# EAGLE library part 25C320P (library ads)
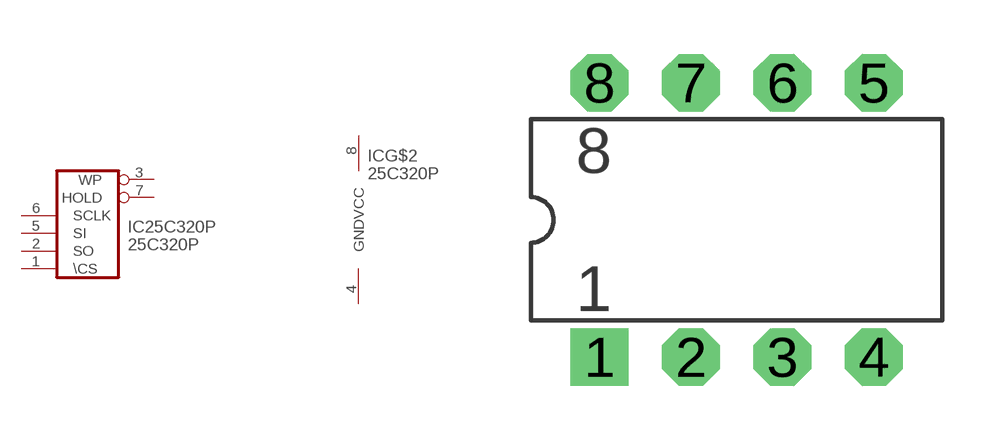
[diagram p3: symbol with the pads of DIP08; footprint DIP08]

Designator prefix IC; gates 25C320P=25C320P G$2=POWER2

## 25C320P  [DIP08]
1  25C320P:\CS  in
2  25C320P:SO  out
3  25C320P:WP  in
4  G$2:GND  pwr
5  25C320P:SI  in
6  25C320P:SCLK  in
7  25C320P:HOLD  in
8  G$2:VCC  pwr

## Footprint DIP08 (pad centres in mm)
drill 0.813 pad 1.6 square: 1 1.27,-3.81
drill 0.813 pad 1.6 octagon: 2 3.81,-3.81; 3 6.35,-3.81; 4 8.89,-3.81; 5 8.89,3.81; 6 6.35,3.81; 7 3.81,3.81; 8 1.27,3.81